# EAGLE library part HIROSE_DF12_50DP (library Traficon)
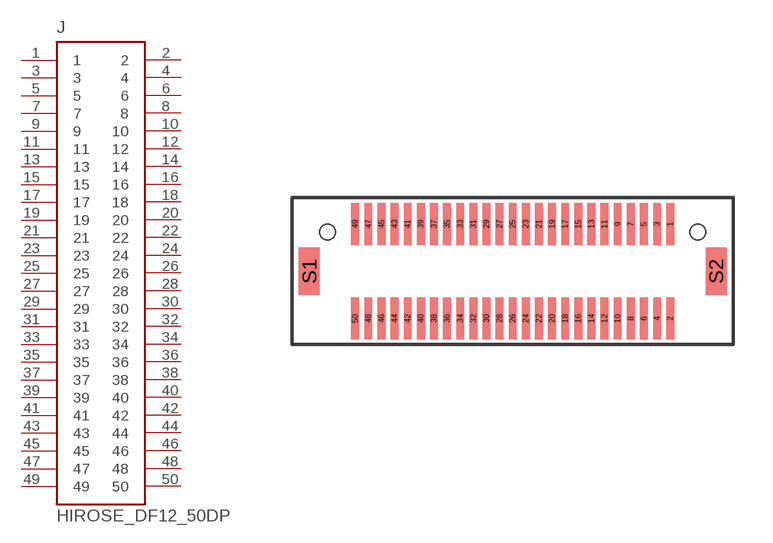
[diagram p246: symbol with the pads of HIROSE_DF12_50DP; footprint HIROSE_DF12_50DP]

Designator prefix J

## HIROSE_DF12_50DP  [HIROSE_DF12_50DP]
1  1
2  2
3  3
4  4
5  5
6  6
7  7
8  8
9  9
10  10
11  11
12  12
13  13
14  14
15  15
16  16
17  17
18  18
19  19
20  20
21  21
22  22
23  23
24  24
25  25
26  26
27  27
28  28
29  29
30  30
31  31
32  32
33  33
34  34
35  35
36  36
37  37
38  38
39  39
40  40
41  41
42  42
43  43
44  44
45  45
46  46
47  47
48  48
49  49
50  50

## Footprint HIROSE_DF12_50DP (pad centres in mm)
smd 0.3 x 1.6: 1 6,1.8; 2 6,-1.8; 3 5.5,1.8; 4 5.5,-1.8; 5 5,1.8; 6 5,-1.8; 7 4.5,1.8; 8 4.5,-1.8; 9 4,1.8; 10 4,-1.8; 11 3.5,1.8; 12 3.5,-1.8; 13 3,1.8; 14 3,-1.8; 15 2.5,1.8; 16 2.5,-1.8; 17 2,1.8; 18 2,-1.8; 19 1.5,1.8; 20 1.5,-1.8; 21 1,1.8; 22 1,-1.8; 23 0.5,1.8; 24 0.5,-1.8; 25 0,1.8; 26 0,-1.8; 27 -0.5,1.8; 28 -0.5,-1.8; 29 -1,1.8; 30 -1,-1.8; 31 -1.5,1.8; 32 -1.5,-1.8; 33 -2,1.8; 34 -2,-1.8; 35 -2.5,1.8; 36 -2.5,-1.8; 37 -3,1.8; 38 -3,-1.8; 39 -3.5,1.8; 40 -3.5,-1.8; 41 -4,1.8; 42 -4,-1.8; 43 -4.5,1.8; 44 -4.5,-1.8; 45 -5,1.8; 46 -5,-1.8; 47 -5.5,1.8; 48 -5.5,-1.8; 49 -6,1.8; 50 -6,-1.8
smd 0.8 x 1.8: S1 -7.75,0; S2 7.75,0
hole 0.6 at -7.05,1.5
hole 0.6 at 7.05,1.5